# Altium schematic symbol library RaspberryPiZeroW.SchLib: 1 symbol
Pins are listed as number, name and electrical type; pins without a type are passive.

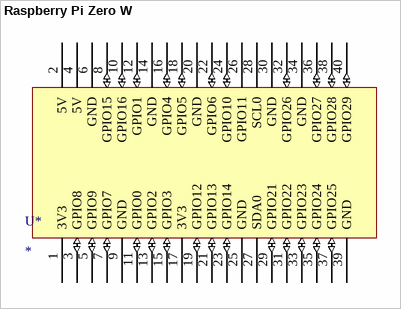
[diagram p0: symbol Raspberry Pi Zero W]

## Raspberry Pi Zero W
designator U*
footprint PCBComponent_1
pins: 1 3V3 (power), 2 5V (power), 3 GPIO8 (io), 4 5V (power), 5 GPIO9 (io), 6 GND (power), 7 GPIO7 (io), 8 GPIO15 (io), 9 GND (power), 10 GPIO16 (io), 11 GPIO0 (io), 12 GPIO1 (io), 13 GPIO2 (io), 14 GND (power), 15 GPIO3 (io), 16 GPIO4 (io), 17 3V3 (power), 18 GPIO5 (io), 19 GPIO12 (io), 20 GND (power), 21 GPIO13 (io), 22 GPIO6 (io), 23 GPIO14 (io), 24 GPIO10 (io), 25 GND (power), 26 GPIO11 (power), 27 SDA0, 28 SCL0, 29 GPIO21 (io), 30 GND (power), 31 GPIO22 (io), 32 GPIO26 (io), 33 GPIO23 (io), 34 GND (power), 35 GPIO24 (io), 36 GPIO27 (io), 37 GPIO25 (io), 38 GPIO28 (io), 39 GND (power), 40 GPIO29 (io)